# EAGLE library part 692112030100 (library Wurth_Connectors_WR-USB)
WR-COM USB 3.0 Type A SMT Plug with Clip Kind Properties Durability:5 000 Mating cycles Connector Type:USB Gender:Plug Type:Horizontal General Information Operating Temperature:-20up to +85 °C Compliance:RoHS Electrical Properties IR 1:1.8A Working Voltage:30V (AC) Withstanding Voltage:1000V (AC) Contact Resistance:50 mΩ Material Properties Insulator Material:LCP Insulator Flammability Rating:UL94 V-0 Color:Blue Contact Material:Phosphor Bronze Contact Plating:Matte Tin over Nickel Contact Type:Stamped Shielding Material:Steel Shielding Plating:Tin <https://www.we-online.com/catalog/media/o33019v209%20Family_WR-COM_692112030100.jpg> Details see: https://www.we-online.com/catalog/en/COM_3_0_SMT_TYPE_A_PLUG_WITH_CLIP/ Updated by Yingchun, Shan 2020-01-16 2020 (C) Würth Elektronik
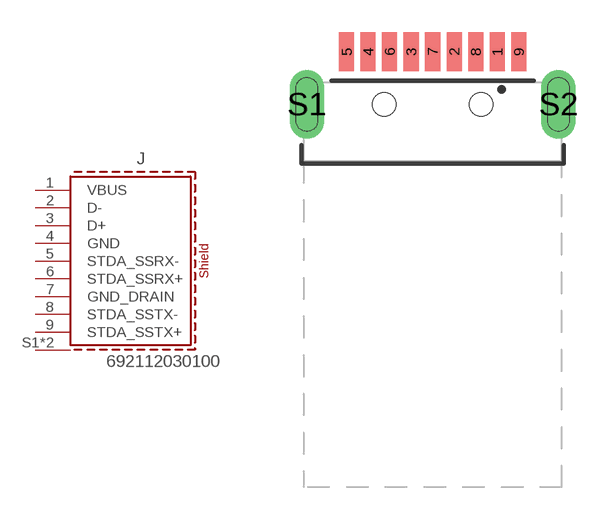
[diagram p14: symbol with the pads of 692112030100; footprint 692112030100]

Designator prefix J

## 692112030100 (APPLICATION: USB 3.0; DATASHEET-URL: https://www.we-online.com/catalog/datasheet/692112030100.pdf; GERDER: Plug; INTERFACE-TYPE: Type A; IR1: 1.8A; MATES-WITH: WR-COM USB 3.0 Type A Horizontal w. Offset 1.04 mm/ USB 3.0 Type A Reverse Horizontal w. Offset 0.14 mm/USB 3.0 Type A Reverse Horizontal w. Offset 1.75 mm/USB 3.0 Type A Stacked /USB 3.0 Type A Vertical THT; MOUNT: SMT; PACKAGING: Tray; PART-NUMBER: 692112030100; PINS: 9; TYPE: Horizontal; WORKING-VOLTAGE: 30V(AC))  [692112030100]
1  VBUS
2  D-
3  D+
4  GND
5  STDA_SSRX-
6  STDA_SSRX+
7  GND_DRAIN
8  STDA_SSTX-
9  STDA_SSTX+
S1  SHIELD
S2  SHIELD

## Footprint 692112030100 (pad centres in mm)
WR-COM USB 3.0 Type A SMT Plug with Clip
smd 0.7 x 1.8: 1 3,10.85; 2 1,10.85; 3 -1,10.85; 4 -3,10.85; 5 -4,10.85; 6 -2,10.85; 7 0,10.85; 8 2,10.85; 9 4,10.85
drill 1 pad 1.6 long: S1 -5.85,8.4; S2 5.85,8.4
hole 1.1 at 2.25,8.4
hole 1.1 at -2.25,8.4